# EAGLE library part POLOLU_DRV8838 (library IchiCustoms)
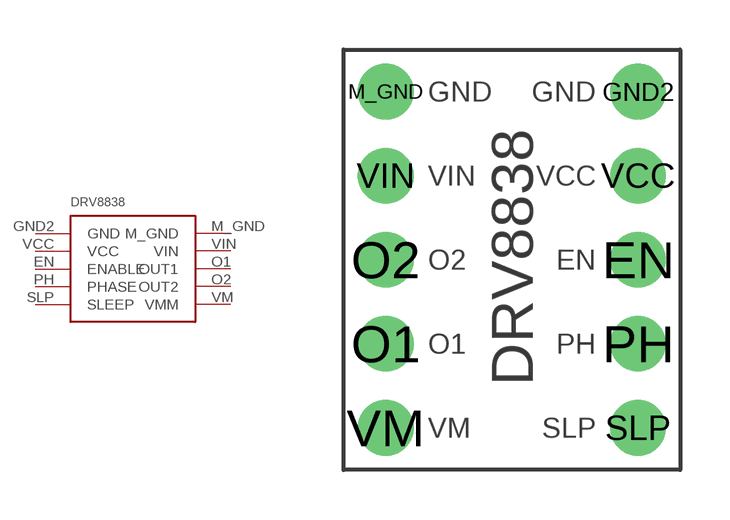
[diagram p1: symbol with the pads of POLOLU_DRV8838; footprint POLOLU_DRV8838]

Designator prefix -

## POLOLU_DRV8838  [POLOLU_DRV8838]
EN  ENABLE
GND2  GND
M_GND  M_GND
O1  OUT1
O2  OUT2
PH  PHASE
SLP  SLEEP
VCC  VCC
VIN  VIN
VM  VMM

## Footprint POLOLU_DRV8838 (pad centres in mm)
drill 1 pad 1.676: EN 8.89,6.35; GND2 8.89,11.43; M_GND 1.27,11.43; O1 1.27,3.81; O2 1.27,6.35; PH 8.89,3.81; SLP 8.89,1.27; VCC 8.89,8.89; VIN 1.27,8.89; VM 1.27,1.27